# Altium footprint library ABM38000MHzD2YT.PcbLib: 1 footprints
Each footprint in its own frame and in the unit in brackets; x right, y up, seen from the top. Pads: shape width x height; smd on the part's side, far side on the other; paste and mask are expansions set on the pad; w line width, h text height; cw(c..) or ccw(c..) is an arc to the next point about the centre after c.
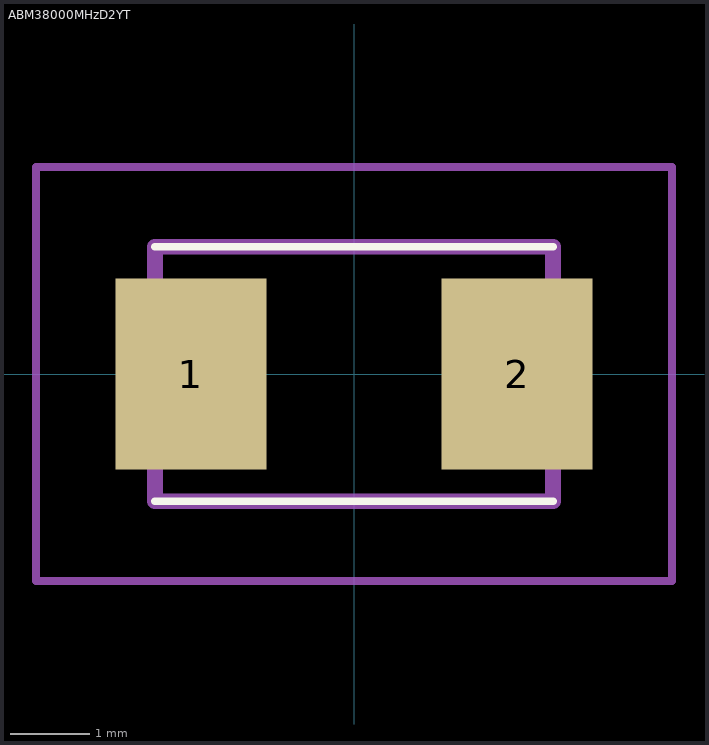
[diagram p0: the footprint, top view; thin cyan lines are the x and y axes]

## ABM38000MHzD2YT [mm]
pads (2):
  rect 1.9x2.4 smd: 1(-2.05,0) 2(2.05,0)
L26-Silk Screen Top (Multiple PADS layers...):
  lines w0.1: -2.5,-1.6 2.5,-1.6 ; -2.5,1.6 2.5,1.6
L15 (Multiple PADS layers...):
  lines w0.2: -2.5,-1.6 2.5,-1.6 2.5,1.6 -2.5,1.6 -2.5,-1.6
L20:
  lines w0.1: -4,-2.6 4,-2.6 4,2.6 -4,2.6 -4,-2.6